# EAGLE library part 8POS_SCREWTERM (library CRAP Parts)
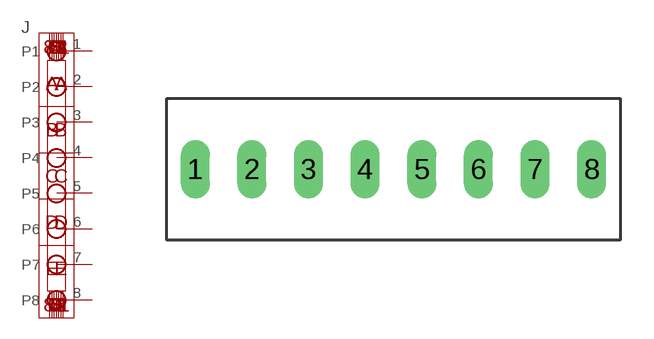
[diagram p0: symbol with the pads of 8POS_0.1; footprint 8POS_0.1]

Designator prefix J

## 8POS_SCREWTERM  [8POS_0.1]
1  P1
2  P2
3  P3
4  P4
5  P5
6  P6
7  P7
8  P8

## Footprint 8POS_0.1 (pad centres in mm)
drill 0.8 long: 1 -8.89,0; 2 -6.35,0; 3 -3.81,0; 4 -1.27,0; 5 1.27,0; 6 3.81,0; 7 6.35,0; 8 8.89,0